# Altium integrated library TI_Logic_Flip-Flop,Latch,Register.IntLib: 2598 symbols (part 17 of 122)
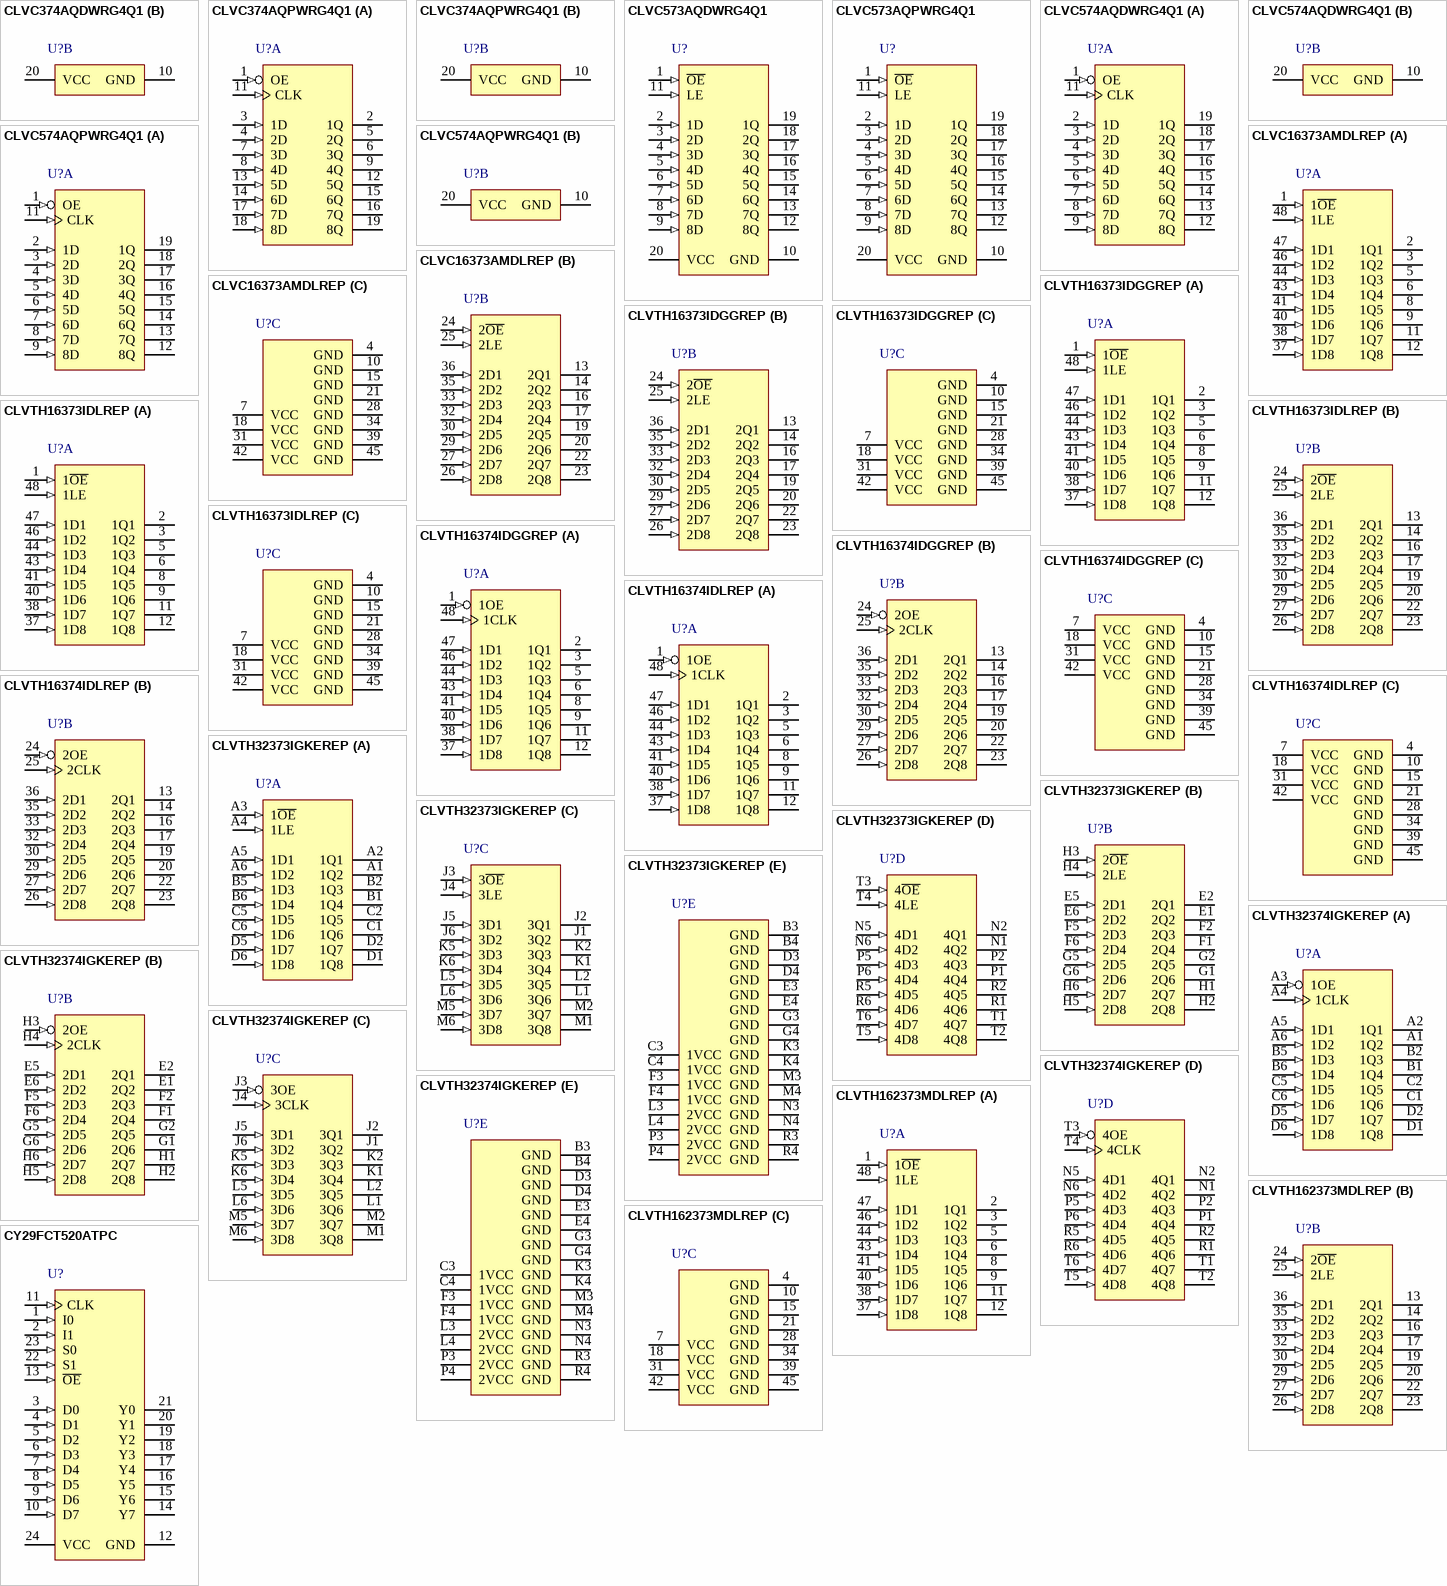
[diagram p155: symbols CLVC374AQDWRG4Q1 to CY29FCT520ATPC]

## CLVTH16373IDGGREP
designator U?
Enhanced Product 3.3-V Abt 16-Bit Transparent D-Type Latches With 3-State Outputs, DGG0048A, LARGE T&R; Generic Part Number: SN74LVTH16373-EP; Manufacturer: Texas Instruments; PartNumber: CLVTH16373IDGGREP; VCC(Min)(V): 2.7; VCC(Max)(V): 3.6; Output Type: TTL; ICC @ Nom Voltage(Max)(mA): 5; Bits(#): 16; F @ Nom Voltage(Max)(Mhz): 160; Rating: HiRel Enhanced Product; Technology Family: LVT; Voltage(Nom)(V): 3.3; Schmitt Trigger: No; Output Drive (IOL/IOH)(Max)(mA): 64/-32; Output Logic: Non-inverted; 3-State Output: Yes; tpd @ Nom Voltage(Max)(ns): 3.8; DatasheetVersion: SCBS778A; PackageReference: DGG0048A; Supplier 1: Digi-Key; Supplier Part Number 1: 296-22132-2-ND; Supplier 2: Digi-Key; Supplier Part Number 2: 296-22132-1-ND; Supplier 3: Digi-Key; Supplier Part Number 3: 296-22132-6-ND; Supplier 4: Mouser; Supplier Part Number 4: 595-CVTH16373IDGGREP; Input Type: TTL; Operating Temperature Range(C): -40 to 85; Code_JEDEC: MO-153; ComponentLink1Description: Manufacturer URL; ComponentLink1URL: http://www.ti.com/; ComponentLink2Description: Datasheet; ComponentLink2URL: http://www.ti.com/lit/ds/symlink/sn74lvth16373-ep.pdf; ComponentLink3Description: Package Specification; ComponentLink3URL: http://www.ti.com/lit/ml/mtss003d/mtss003d.pdf
footprint DGG0048A_N (TSSOP, 48-Leads, Body 12.6x6.2mm, Pitch 0.5mm, IPC Medium Density)
footprint DGG0048A_M (TSSOP, 48-Leads, Body 12.6x6.2mm, Pitch 0.5mm, IPC Low Density)
footprint DGG0048A_L (TSSOP, 48-Leads, Body 12.6x6.2mm, Pitch 0.5mm, IPC High Density)
part A pins: 1 1~{OE} (in) "Output Enable 1", 2 1Q1 (hiz) "1Q1 Output", 3 1Q2 (hiz) "1Q2 Output", 5 1Q3 (hiz) "1Q3 Output", 6 1Q4 (hiz) "1Q4 Output", 8 1Q5 (hiz) "1Q5 Output", 9 1Q6 (hiz) "1Q6 Output", 11 1Q7 (hiz) "1Q7 Output", 12 1Q8 (hiz) "1Q8 Output", 37 1D8 (in) "1D8 Input", 38 1D7 (in) "1D7 Input", 40 1D6 (in) "1D6 Input", 41 1D5 (in) "1D5 Input", 43 1D4 (in) "1D4 Input", 44 1D3 (in) "1D3 Input", 46 1D2 (in) "1D2 Input", 47 1D1 (in) "1D1 Input", 48 1LE (in) "Latch Enable 1"
part B pins: 13 2Q1 (hiz) "2Q1 Output", 14 2Q2 (hiz) "2Q2 Output", 16 2Q3 (hiz) "2Q3 Output", 17 2Q4 (hiz) "2Q4 Output", 19 2Q5 (hiz) "Output", 20 2Q6 (hiz) "2Q6 Output", 22 2Q7 (hiz) "2Q7 Output", 23 2Q8 (hiz) "2Q8 Output", 24 2~{OE} (in) "Output Enable 2", 25 2LE (in) "2LE Input", 26 2D8 (in) "2D8 Input", 27 2D7 (in) "2D7 Input", 29 2D6 (in) "2D6 Input", 30 2D5 (in) "2D5 Input", 32 2D4 (in) "2D4 Input", 33 2D3 (in) "2D3 Input", 35 2D2 (in) "2D2 Input", 36 2D1 (in) "2D1 Input"
part C pins: 4 GND (power) "Ground Pin", 7 VCC (power) "Power Pin", 10 GND (power) "Ground Pin", 15 GND (power) "Ground Pin", 18 VCC (power) "Power Pin", 21 GND (power) "Ground Pin", 28 GND (power) "Ground Pin", 31 VCC (power) "Power Pin", 34 GND (power) "Ground Pin", 39 GND (power) "Ground Pin", 42 VCC (power) "Power Pin", 45 GND (power) "Ground Pin"

## CLVTH16373IDLREP
designator U?
Enhanced Product 3.3-V Abt 16-Bit Transparent D-Type Latches With 3-State Outputs, DL0048A, LARGE T&R; Generic Part Number: SN74LVTH16373-EP; Manufacturer: Texas Instruments; PartNumber: CLVTH16373IDLREP; VCC(Min)(V): 2.7; VCC(Max)(V): 3.6; Output Type: TTL; ICC @ Nom Voltage(Max)(mA): 5; Bits(#): 16; F @ Nom Voltage(Max)(Mhz): 160; Rating: HiRel Enhanced Product; Technology Family: LVT; Voltage(Nom)(V): 3.3; Schmitt Trigger: No; Output Drive (IOL/IOH)(Max)(mA): 64/-32; Output Logic: Non-inverted; 3-State Output: Yes; tpd @ Nom Voltage(Max)(ns): 3.8; DatasheetVersion: SCBS778A; PackageReference: DL0048A; Supplier 1: Digi-Key; Supplier Part Number 1: 296-22133-2-ND; Supplier 2: Digi-Key; Supplier Part Number 2: 296-22133-1-ND; Supplier 3: Digi-Key; Supplier Part Number 3: 296-22133-6-ND; Supplier 4: Mouser; Supplier Part Number 4: 595-CLVTH16373IDLREP; Input Type: TTL; Operating Temperature Range(C): -40 to 85; Code_JEDEC: MO-118; ComponentLink1Description: Manufacturer URL; ComponentLink1URL: http://www.ti.com/; ComponentLink2Description: Datasheet; ComponentLink2URL: http://www.ti.com/lit/ds/symlink/sn74lvth16373-ep.pdf; ComponentLink3Description: Package Specification; ComponentLink3URL: http://www.ti.com/lit/ml/mpds490/mpds490.pdf
footprint DL0048A_N (SOP, 48-Leads, Body 7.6x16mm, Pitch 0.635mm, IPC Medium Density)
footprint DL0048A_M (SOP, 48-Leads, Body 7.6x16mm, Pitch 0.635mm, IPC Low Density)
footprint DL0048A_L (SOP, 48-Leads, Body 7.6x16mm, Pitch 0.635mm, IPC High Density)
part A pins: 1 1~{OE} (in) "Output Enable 1", 2 1Q1 (hiz) "1Q1 Output", 3 1Q2 (hiz) "1Q2 Output", 5 1Q3 (hiz) "1Q3 Output", 6 1Q4 (hiz) "1Q4 Output", 8 1Q5 (hiz) "1Q5 Output", 9 1Q6 (hiz) "1Q6 Output", 11 1Q7 (hiz) "1Q7 Output", 12 1Q8 (hiz) "1Q8 Output", 37 1D8 (in) "1D8 Input", 38 1D7 (in) "1D7 Input", 40 1D6 (in) "1D6 Input", 41 1D5 (in) "1D5 Input", 43 1D4 (in) "1D4 Input", 44 1D3 (in) "1D3 Input", 46 1D2 (in) "1D2 Input", 47 1D1 (in) "1D1 Input", 48 1LE (in) "Latch Enable 1"
part B pins: 13 2Q1 (hiz) "2Q1 Output", 14 2Q2 (hiz) "2Q2 Output", 16 2Q3 (hiz) "2Q3 Output", 17 2Q4 (hiz) "2Q4 Output", 19 2Q5 (hiz) "Output", 20 2Q6 (hiz) "2Q6 Output", 22 2Q7 (hiz) "2Q7 Output", 23 2Q8 (hiz) "2Q8 Output", 24 2~{OE} (in) "Output Enable 2", 25 2LE (in) "2LE Input", 26 2D8 (in) "2D8 Input", 27 2D7 (in) "2D7 Input", 29 2D6 (in) "2D6 Input", 30 2D5 (in) "2D5 Input", 32 2D4 (in) "2D4 Input", 33 2D3 (in) "2D3 Input", 35 2D2 (in) "2D2 Input", 36 2D1 (in) "2D1 Input"
part C pins: 4 GND (power) "Ground Pin", 7 VCC (power) "Power Pin", 10 GND (power) "Ground Pin", 15 GND (power) "Ground Pin", 18 VCC (power) "Power Pin", 21 GND (power) "Ground Pin", 28 GND (power) "Ground Pin", 31 VCC (power) "Power Pin", 34 GND (power) "Ground Pin", 39 GND (power) "Ground Pin", 42 VCC (power) "Power Pin", 45 GND (power) "Ground Pin"

## CLVTH16374IDGGREP
designator U?
Enhanced Product 3.3-V Abt 16-Bit Edge-Triggered D-Type Flip-Flops With 3-State Outputs, DGG0048A, LARGE T&R; Generic Part Number: SN74LVTH16374-EP; Manufacturer: Texas Instruments; PartNumber: CLVTH16374IDGGREP; VCC(Min)(V): 2.7; VCC(Max)(V): 3.6; Output Type: TTL; ICC @ Nom Voltage(Max)(mA): 5; Bits(#): 16; F @ Nom Voltage(Max)(Mhz): 160; Rating: HiRel Enhanced Product; Technology Family: LVT; Voltage(Nom)(V): 3.3; Schmitt Trigger: No; Output Drive (IOL/IOH)(Max)(mA): 64/-32; Output Logic: Non-inverted; 3-State Output: Yes; tpd @ Nom Voltage(Max)(ns): 4.5; DatasheetVersion: SCBS779A; PackageReference: DGG0048A; Supplier 1: Digi-Key; Supplier Part Number 1: 296-22136-2-ND; Supplier 2: Digi-Key; Supplier Part Number 2: 296-22136-1-ND; Supplier 3: Digi-Key; Supplier Part Number 3: 296-22136-6-ND; Supplier 4: Mouser; Supplier Part Number 4: 595-CVTH16374IDGGREP; Input Type: TTL; Operating Temperature Range(C): -40 to 85; Code_JEDEC: MO-153; ComponentLink1Description: Manufacturer URL; ComponentLink1URL: http://www.ti.com/; ComponentLink2Description: Datasheet; ComponentLink2URL: http://www.ti.com/lit/ds/symlink/sn74lvth16374-ep.pdf; ComponentLink3Description: Package Specification; ComponentLink3URL: http://www.ti.com/lit/ml/mtss003d/mtss003d.pdf
footprint DGG0048A_N (TSSOP, 48-Leads, Body 12.6x6.2mm, Pitch 0.5mm, IPC Medium Density)
footprint DGG0048A_M (TSSOP, 48-Leads, Body 12.6x6.2mm, Pitch 0.5mm, IPC Low Density)
footprint DGG0048A_L (TSSOP, 48-Leads, Body 12.6x6.2mm, Pitch 0.5mm, IPC High Density)
part A pins: 1 1OE (in), 2 1Q1 (hiz), 3 1Q2 (hiz), 5 1Q3 (hiz), 6 1Q4 (hiz), 8 1Q5 (hiz), 9 1Q6 (hiz), 11 1Q7 (hiz), 12 1Q8 (hiz), 37 1D8 (in), 38 1D7 (in), 40 1D6 (in), 41 1D5 (in), 43 1D4 (in), 44 1D3 (in), 46 1D2 (in), 47 1D1 (in), 48 1CLK (in)
part B pins: 13 2Q1 (hiz), 14 2Q2 (hiz), 16 2Q3 (hiz), 17 2Q4 (hiz), 19 2Q5 (hiz), 20 2Q6 (hiz), 22 2Q7 (hiz), 23 2Q8 (hiz), 24 2OE (in), 25 2CLK (in), 26 2D8 (in), 27 2D7 (in), 29 2D6 (in), 30 2D5 (in), 32 2D4 (in), 33 2D3 (in), 35 2D2 (in), 36 2D1 (in)
part C pins: 4 GND (power), 7 VCC (power), 10 GND (power), 15 GND (power), 18 VCC (power), 21 GND (power), 28 GND (power), 31 VCC (power), 34 GND (power), 39 GND (power), 42 VCC (power), 45 GND (power)

## CLVTH16374IDLREP
designator U?
Enhanced Product 3.3-V Abt 16-Bit Edge-Triggered D-Type Flip-Flops With 3-State Outputs, DL0048A, LARGE T&R; Generic Part Number: SN74LVTH16374-EP; Manufacturer: Texas Instruments; PartNumber: CLVTH16374IDLREP; VCC(Min)(V): 2.7; VCC(Max)(V): 3.6; Output Type: TTL; ICC @ Nom Voltage(Max)(mA): 5; Bits(#): 16; F @ Nom Voltage(Max)(Mhz): 160; Rating: HiRel Enhanced Product; Technology Family: LVT; Voltage(Nom)(V): 3.3; Schmitt Trigger: No; Output Drive (IOL/IOH)(Max)(mA): 64/-32; Output Logic: Non-inverted; 3-State Output: Yes; tpd @ Nom Voltage(Max)(ns): 4.5; DatasheetVersion: SCBS779A; PackageReference: DL0048A; Supplier 1: Digi-Key; Supplier Part Number 1: 296-19494-2-ND; Supplier 2: Digi-Key; Supplier Part Number 2: 296-19494-1-ND; Supplier 3: Digi-Key; Supplier Part Number 3: 296-19494-6-ND; Supplier 4: Mouser; Supplier Part Number 4: 595-CLVTH16374IDLREP; Input Type: TTL; Operating Temperature Range(C): -40 to 85; Code_JEDEC: MO-118; ComponentLink1Description: Manufacturer URL; ComponentLink1URL: http://www.ti.com/; ComponentLink2Description: Datasheet; ComponentLink2URL: http://www.ti.com/lit/ds/symlink/sn74lvth16374-ep.pdf; ComponentLink3Description: Package Specification; ComponentLink3URL: http://www.ti.com/lit/ml/mpds490/mpds490.pdf
footprint DL0048A_N (SOP, 48-Leads, Body 7.6x16mm, Pitch 0.635mm, IPC Medium Density)
footprint DL0048A_M (SOP, 48-Leads, Body 7.6x16mm, Pitch 0.635mm, IPC Low Density)
footprint DL0048A_L (SOP, 48-Leads, Body 7.6x16mm, Pitch 0.635mm, IPC High Density)
part A pins: 1 1OE (in), 2 1Q1 (hiz), 3 1Q2 (hiz), 5 1Q3 (hiz), 6 1Q4 (hiz), 8 1Q5 (hiz), 9 1Q6 (hiz), 11 1Q7 (hiz), 12 1Q8 (hiz), 37 1D8 (in), 38 1D7 (in), 40 1D6 (in), 41 1D5 (in), 43 1D4 (in), 44 1D3 (in), 46 1D2 (in), 47 1D1 (in), 48 1CLK (in)
part B pins: 13 2Q1 (hiz), 14 2Q2 (hiz), 16 2Q3 (hiz), 17 2Q4 (hiz), 19 2Q5 (hiz), 20 2Q6 (hiz), 22 2Q7 (hiz), 23 2Q8 (hiz), 24 2OE (in), 25 2CLK (in), 26 2D8 (in), 27 2D7 (in), 29 2D6 (in), 30 2D5 (in), 32 2D4 (in), 33 2D3 (in), 35 2D2 (in), 36 2D1 (in)
part C pins: 4 GND (power), 7 VCC (power), 10 GND (power), 15 GND (power), 18 VCC (power), 21 GND (power), 28 GND (power), 31 VCC (power), 34 GND (power), 39 GND (power), 42 VCC (power), 45 GND (power)

## CLVTH32373IGKEREP
designator U?
Enhanced Product 3.3-V Abt 32-Bit Transparent D-Type Latch With 3-State Outputs, GKE0096A, LARGE T&R; Generic Part Number: SN74LVTH32373-EP; Manufacturer: Texas Instruments; PartNumber: CLVTH32373IGKEREP; VCC(Min)(V): 2.7; VCC(Max)(V): 3.6; Output Type: TTL; ICC @ Nom Voltage(Max)(mA): 10; Bits(#): 32; F @ Nom Voltage(Max)(Mhz): 160; Rating: HiRel Enhanced Product; Technology Family: LVT; Voltage(Nom)(V): 3.3; Schmitt Trigger: No; Output Drive (IOL/IOH)(Max)(mA): 64/-32; Output Logic: Non-inverted; 3-State Output: Yes; tpd @ Nom Voltage(Max)(ns): 3.8; DatasheetVersion: SCBS794; PackageReference: GKE0096A; Supplier 1: Digi-Key; Supplier Part Number 1: 296-22145-2-ND; Supplier 2: Digi-Key; Supplier Part Number 2: 296-22145-1-ND; Supplier 3: Mouser; Supplier Part Number 3: 595-CVTH32373IGKEREP; Input Type: TTL; Operating Temperature Range(C): -40 to 85; Code_JEDEC: MO-205; ComponentLink1Description: Manufacturer URL; ComponentLink1URL: http://www.ti.com/; ComponentLink2Description: Datasheet; ComponentLink2URL: http://www.ti.com/lit/ds/symlink/sn74lvth32373-ep.pdf; ComponentLink3Description: Package Specification; ComponentLink3URL: http://www.ti.com/lit/ml/mpbg095d/mpbg095d.pdf
footprint GKE0096A (BGA, 96-Balls, Body 13.5x5.5mm, Pitch 0.8mm)
part A pins: A1 1Q2 (hiz), A2 1Q1 (hiz), A3 1~{OE} (in), A4 1LE (in), A5 1D1 (in), A6 1D2 (in), B1 1Q4 (hiz), B2 1Q3 (hiz), B5 1D3 (in), B6 1D4 (in), C1 1Q6 (hiz), C2 1Q5 (hiz), C5 1D5 (in), C6 1D6 (in), D1 1Q8 (hiz), D2 1Q7 (hiz), D5 1D7 (in), D6 1D8 (in)
part B pins: E1 2Q2 (hiz), E2 2Q1 (hiz), E5 2D1 (in), E6 2D2 (in), F1 2Q4 (hiz), F2 2Q3 (hiz), F5 2D3 (in), F6 2D4 (in), G1 2Q6 (hiz), G2 2Q5 (hiz), G5 2D5 (in), G6 2D6 (in), H1 2Q7 (hiz), H2 2Q8 (hiz), H3 2~{OE} (in), H4 2LE (in), H5 2D8 (in), H6 2D7 (in)
part C pins: J1 3Q2 (hiz), J2 3Q1 (hiz), J3 3~{OE} (in), J4 3LE (in), J5 3D1 (in), J6 3D2 (in), K1 3Q4 (hiz), K2 3Q3 (hiz), K5 3D3 (in), K6 3D4 (in), L1 3Q6 (hiz), L2 3Q5 (hiz), L5 3D5 (in), L6 3D6 (in), M1 3Q8 (hiz), M2 3Q7 (hiz), M5 3D7 (in), M6 3D8 (in)
part D pins: N1 4Q2 (hiz), N2 4Q1 (hiz), N5 4D1 (in), N6 4D2 (in), P1 4Q4 (hiz), P2 4Q3 (hiz), P5 4D3 (in), P6 4D4 (in), R1 4Q6 (hiz), R2 4Q5 (hiz), R5 4D5 (in), R6 4D6 (in), T1 4Q7 (hiz), T2 4Q8 (hiz), T3 4~{OE} (in), T4 4LE (in), T5 4D8 (in), T6 4D7 (in)
part E pins: B3 GND (power), B4 GND (power), C3 1VCC (power), C4 1VCC (power), D3 GND (power), D4 GND (power), E3 GND (power), E4 GND (power), F3 1VCC (power), F4 1VCC (power), G3 GND (power), G4 GND (power), K3 GND (power), K4 GND (power), L3 2VCC (power), L4 2VCC (power), M3 GND (power), M4 GND (power), N3 GND (power), N4 GND (power), P3 2VCC (power), P4 2VCC (power), R3 GND (power), R4 GND (power)

## CLVTH32374IGKEREP
designator U?
Enhanced Product 3.3-V Abt 32-Bit Edge-Triggered D-Type Flip-Flop With 3-State Outputs, GKE0096A, LARGE T&R; Generic Part Number: SN74LVTH32374-EP; Manufacturer: Texas Instruments; PartNumber: CLVTH32374IGKEREP; VCC(Min)(V): 2.7; VCC(Max)(V): 3.6; Output Type: TTL; ICC @ Nom Voltage(Max)(mA): 10; Bits(#): 32; F @ Nom Voltage(Max)(Mhz): 160; Rating: HiRel Enhanced Product; Technology Family: LVT; Voltage(Nom)(V): 3.3; Schmitt Trigger: No; Output Drive (IOL/IOH)(Max)(mA): 64/-32; Output Logic: Non-inverted; 3-State Output: Yes; tpd @ Nom Voltage(Max)(ns): 4.5; DatasheetVersion: SCBS795; PackageReference: GKE0096A; Supplier 1: Digi-Key; Supplier Part Number 1: 296-22146-2-ND; Supplier 2: Digi-Key; Supplier Part Number 2: 296-22146-1-ND; Supplier 3: Mouser; Supplier Part Number 3: 595-CVTH32374IGKEREP; Operating Temperature Range(C): -40 to 85; Code_JEDEC: MO-205; ComponentLink1Description: Manufacturer URL; ComponentLink1URL: http://www.ti.com/; ComponentLink2Description: Datasheet; ComponentLink2URL: http://www.ti.com/lit/ds/symlink/sn74lvth32374-ep.pdf; ComponentLink3Description: Package Specification; ComponentLink3URL: http://www.ti.com/lit/ml/mpbg095d/mpbg095d.pdf
footprint GKE0096A (BGA, 96-Balls, Body 13.5x5.5mm, Pitch 0.8mm)
part A pins: A1 1Q2 (hiz), A2 1Q1 (hiz), A3 1OE (in), A4 1CLK (in), A5 1D1 (in), A6 1D2 (in), B1 1Q4 (hiz), B2 1Q3 (hiz), B5 1D3 (in), B6 1D4 (in), C1 1Q6 (hiz), C2 1Q5 (hiz), C5 1D5 (in), C6 1D6 (in), D1 1Q8 (hiz), D2 1Q7 (hiz), D5 1D7 (in), D6 1D8 (in)
part B pins: E1 2Q2 (hiz), E2 2Q1 (hiz), E5 2D1 (in), E6 2D2 (in), F1 2Q4 (hiz), F2 2Q3 (hiz), F5 2D3 (in), F6 2D4 (in), G1 2Q6 (hiz), G2 2Q5 (hiz), G5 2D5 (in), G6 2D6 (in), H1 2Q7 (hiz), H2 2Q8 (hiz), H3 2OE (in), H4 2CLK (in), H5 2D8 (in), H6 2D7 (in)
part C pins: J1 3Q2 (hiz), J2 3Q1 (hiz), J3 3OE (in), J4 3CLK (in), J5 3D1 (in), J6 3D2 (in), K1 3Q4 (hiz), K2 3Q3 (hiz), K5 3D3 (in), K6 3D4 (in), L1 3Q6 (hiz), L2 3Q5 (hiz), L5 3D5 (in), L6 3D6 (in), M1 3Q8 (hiz), M2 3Q7 (hiz), M5 3D7 (in), M6 3D8 (in)
part D pins: N1 4Q2 (hiz), N2 4Q1 (hiz), N5 4D1 (in), N6 4D2 (in), P1 4Q4 (hiz), P2 4Q3 (hiz), P5 4D3 (in), P6 4D4 (in), R1 4Q6 (hiz), R2 4Q5 (hiz), R5 4D5 (in), R6 4D6 (in), T1 4Q7 (hiz), T2 4Q8 (hiz), T3 4OE (in), T4 4CLK (in), T5 4D8 (in), T6 4D7 (in)
part E pins: B3 GND (power), B4 GND (power), C3 1VCC (power), C4 1VCC (power), D3 GND (power), D4 GND (power), E3 GND (power), E4 GND (power), F3 1VCC (power), F4 1VCC (power), G3 GND (power), G4 GND (power), K3 GND (power), K4 GND (power), L3 2VCC (power), L4 2VCC (power), M3 GND (power), M4 GND (power), N3 GND (power), N4 GND (power), P3 2VCC (power), P4 2VCC (power), R3 GND (power), R4 GND (power)

## CLVTH162373MDLREP
designator U?
Enhanced Product 3.3-V Abt 16-Bit Transparent D-Type Latches With 3-State Outputs, DL0048A, LARGE T&R; Generic Part Number: SN74LVTH162373-EP; Manufacturer: Texas Instruments; PartNumber: CLVTH162373MDLREP; VCC(Min)(V): 2.7; VCC(Max)(V): 3.6; Output Type: TTL; ICC @ Nom Voltage(Max)(mA): 5; Bits(#): 16; F @ Nom Voltage(Max)(Mhz): 160; Rating: HiRel Enhanced Product; Technology Family: LVT; Voltage(Nom)(V): 3.3; Schmitt Trigger: No; Output Drive (IOL/IOH)(Max)(mA): 12/-12; Output Logic: Non-inverted; 3-State Output: Yes; tpd @ Nom Voltage(Max)(ns): 4.6; DatasheetVersion: SCBS811A; PackageReference: DL0048A; Supplier 1: Digi-Key; Supplier Part Number 1: 296-22120-2-ND; Supplier 2: Digi-Key; Supplier Part Number 2: 296-22120-1-ND; Supplier 3: Digi-Key; Supplier Part Number 3: 296-22120-6-ND; Supplier 4: Mouser; Supplier Part Number 4: 595-CVTH162373MDLREP; Input Type: TTL; Operating Temperature Range(C): -55 to 125; Code_JEDEC: MO-118; ComponentLink1Description: Manufacturer URL; ComponentLink1URL: http://www.ti.com/; ComponentLink2Description: Datasheet; ComponentLink2URL: http://www.ti.com/lit/ds/symlink/sn74lvth162373-ep.pdf; ComponentLink3Description: Package Specification; ComponentLink3URL: http://www.ti.com/lit/ml/mpds490/mpds490.pdf
footprint DL0048A_N (SOP, 48-Leads, Body 7.6x16mm, Pitch 0.635mm, IPC Medium Density)
footprint DL0048A_M (SOP, 48-Leads, Body 7.6x16mm, Pitch 0.635mm, IPC Low Density)
footprint DL0048A_L (SOP, 48-Leads, Body 7.6x16mm, Pitch 0.635mm, IPC High Density)
part A pins: 1 1~{OE} (in) "Output Enable 1", 2 1Q1 (hiz) "1Q1 Output", 3 1Q2 (hiz) "1Q2 Output", 5 1Q3 (hiz) "1Q3 Output", 6 1Q4 (hiz) "1Q4 Output", 8 1Q5 (hiz) "1Q5 Output", 9 1Q6 (hiz) "1Q6 Output", 11 1Q7 (hiz) "1Q7 Output", 12 1Q8 (hiz) "1Q8 Output", 37 1D8 (in) "1D8 Input", 38 1D7 (in) "1D7 Input", 40 1D6 (in) "1D6 Input", 41 1D5 (in) "1D5 Input", 43 1D4 (in) "1D4 Input", 44 1D3 (in) "1D3 Input", 46 1D2 (in) "1D2 Input", 47 1D1 (in) "1D1 Input", 48 1LE (in) "Latch Enable 1"
part B pins: 13 2Q1 (hiz) "2Q1 Output", 14 2Q2 (hiz) "2Q2 Output", 16 2Q3 (hiz) "2Q3 Output", 17 2Q4 (hiz) "2Q4 Output", 19 2Q5 (hiz) "Output", 20 2Q6 (hiz) "2Q6 Output", 22 2Q7 (hiz) "2Q7 Output", 23 2Q8 (hiz) "2Q8 Output", 24 2~{OE} (in) "Output Enable 2", 25 2LE (in) "2LE Input", 26 2D8 (in) "2D8 Input", 27 2D7 (in) "2D7 Input", 29 2D6 (in) "2D6 Input", 30 2D5 (in) "2D5 Input", 32 2D4 (in) "2D4 Input", 33 2D3 (in) "2D3 Input", 35 2D2 (in) "2D2 Input", 36 2D1 (in) "2D1 Input"
part C pins: 4 GND (power) "Ground Pin", 7 VCC (power) "Power Pin", 10 GND (power) "Ground Pin", 15 GND (power) "Ground Pin", 18 VCC (power) "Power Pin", 21 GND (power) "Ground Pin", 28 GND (power) "Ground Pin", 31 VCC (power) "Power Pin", 34 GND (power) "Ground Pin", 39 GND (power) "Ground Pin", 42 VCC (power) "Power Pin", 45 GND (power) "Ground Pin"

## CY29FCT520ATPC
designator U?
8-Bit Multi-Level Pipeline Register, NT0024A, TUBE; Generic Part Number: CY29FCT520T; Manufacturer: Texas Instruments; PartNumber: CY29FCT520ATPC; Technology Family: FCT; Bits: 8; DatasheetVersion: SCCS011C; PackageReference: NT0024A; ComponentLink1Description: Manufacturer URL; ComponentLink1URL: http://www.ti.com/; ComponentLink2Description: Datasheet; ComponentLink2URL: http://www.ti.com/lit/ds/symlink/cy29fct520t.pdf; ComponentLink3Description: Package Specification; ComponentLink3URL: http://www.ti.com/lit/ml/mpdi004a/mpdi004a.pdf
footprint NT0024A (DIP, 24-Leads, Body 32.05x7.1mm, Pitch 2.54mm)
pins: 1 I0 (in), 2 I1 (in), 3 D0 (in), 4 D1 (in), 5 D2 (in), 6 D3 (in), 7 D4 (in), 8 D5 (in), 9 D6 (in), 10 D7 (in), 11 CLK (in), 12 GND (power), 13 ~{OE} (in), 14 Y7 (hiz), 15 Y6 (hiz), 16 Y5 (hiz), 17 Y4 (hiz), 18 Y3 (hiz), 19 Y2 (hiz), 20 Y1 (hiz), 21 Y0 (hiz), 22 S1 (in), 23 S0 (in), 24 VCC (power)

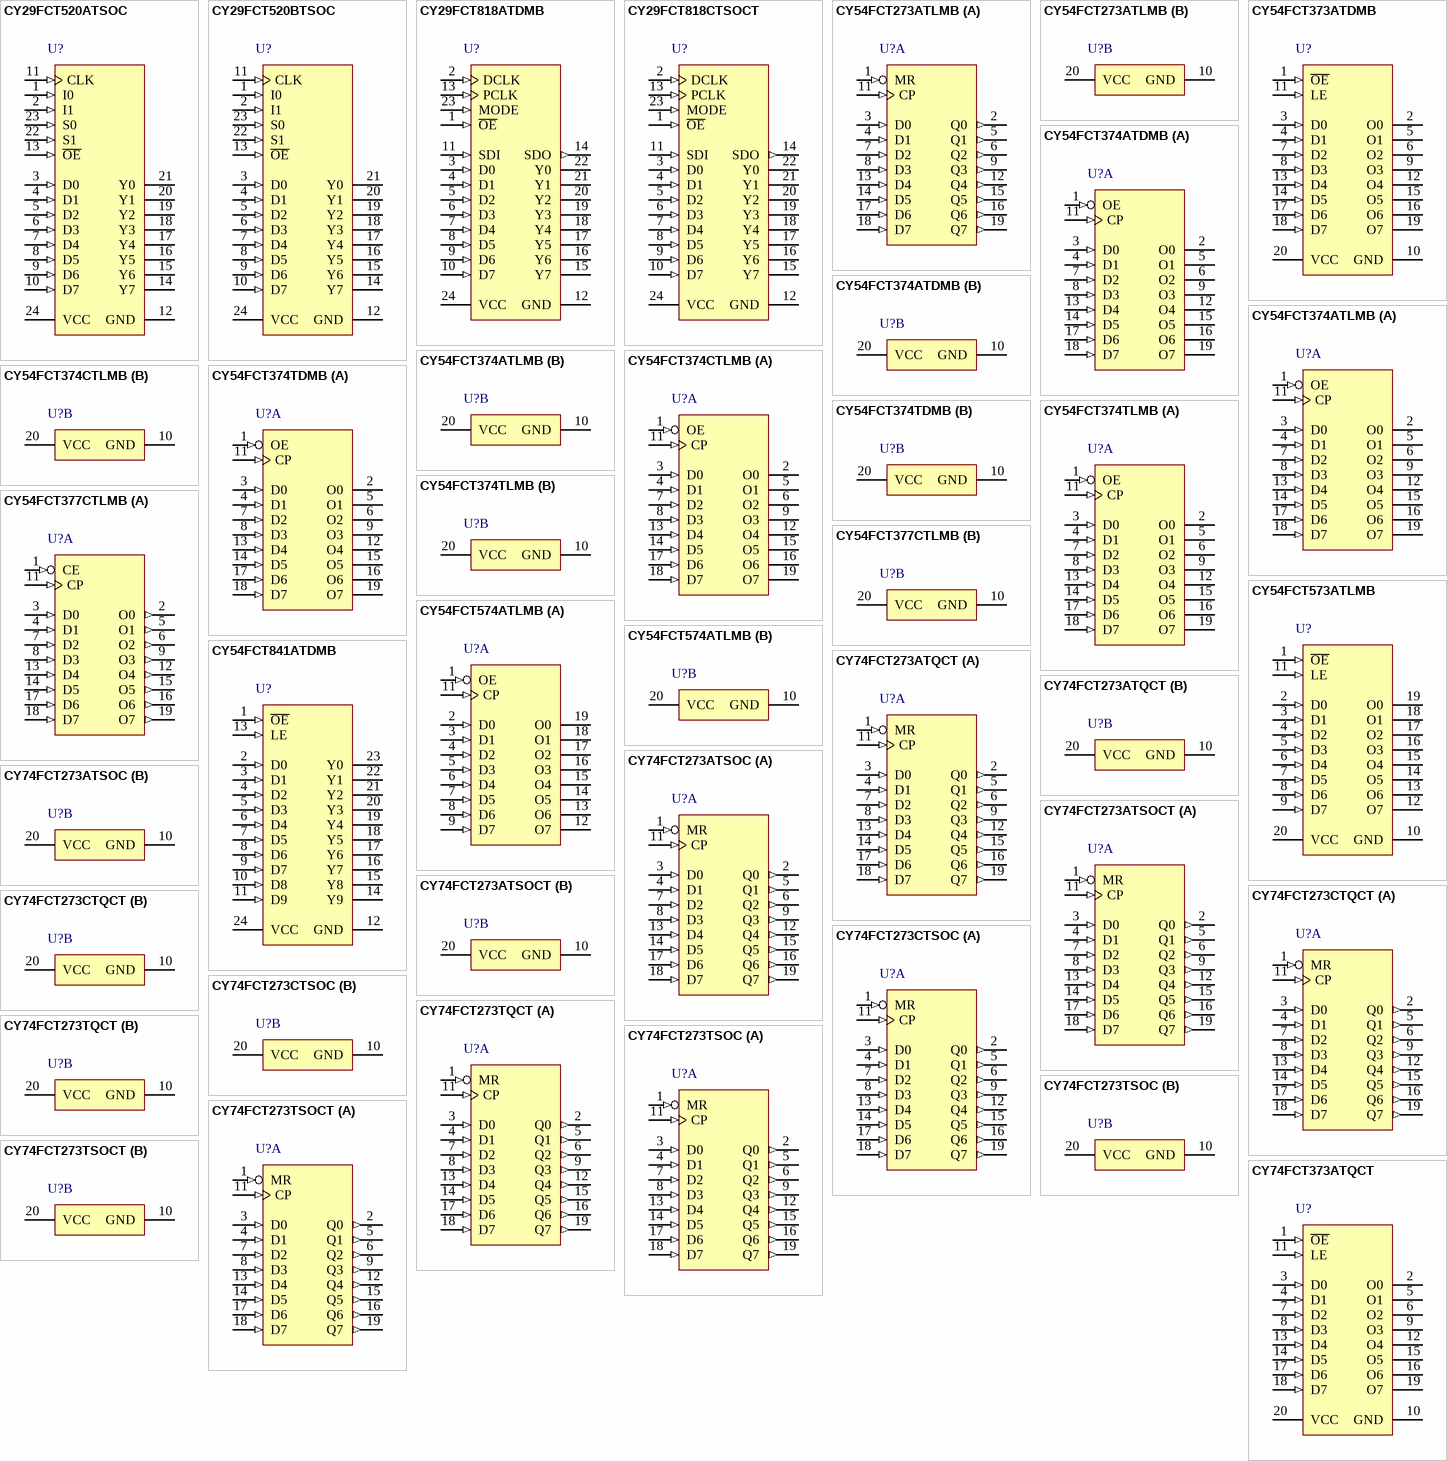
[diagram p24: symbols CY29FCT520ATSOC to CY74FCT373ATQCT]

## CY29FCT520ATSOC
designator U?
8-Bit Multi-Level Pipeline Register, DW0024A, TUBE; Generic Part Number: CY29FCT520T; Manufacturer: Texas Instruments; PartNumber: CY29FCT520ATSOC; Technology Family: FCT; Rating: Military; DatasheetVersion: SCCS011C; PackageReference: DW0024A; Operating Temperature Range(C): -40 to 85, -55 to 125; Code_JEDEC: MS-013; ComponentLink1Description: Manufacturer URL; ComponentLink1URL: http://www.ti.com/; ComponentLink2Description: Datasheet; ComponentLink2URL: http://www.ti.com/lit/ds/symlink/cy29fct520t.pdf; ComponentLink3Description: Package Specification; ComponentLink3URL: http://www.ti.com/lit/ml/mpds174a/mpds174a.pdf
footprint DW0024A_N (SOIC, 24-Leads, Body 15.6x7.6mm, Pitch 1.27mm, IPC Medium Density)
footprint DW0024A_M (SOIC, 24-Leads, Body 15.6x7.6mm, Pitch 1.27mm, IPC Low Density)
footprint DW0024A_L (SOIC, 24-Leads, Body 15.6x7.6mm, Pitch 1.27mm, IPC High Density)
pins: 1 I0 (in), 2 I1 (in), 3 D0 (in), 4 D1 (in), 5 D2 (in), 6 D3 (in), 7 D4 (in), 8 D5 (in), 9 D6 (in), 10 D7 (in), 11 CLK (in), 12 GND (power), 13 ~{OE} (in), 14 Y7 (hiz), 15 Y6 (hiz), 16 Y5 (hiz), 17 Y4 (hiz), 18 Y3 (hiz), 19 Y2 (hiz), 20 Y1 (hiz), 21 Y0 (hiz), 22 S1 (in), 23 S0 (in), 24 VCC (power)

## CY29FCT520BTSOC
designator U?
8-Bit Multi-Level Pipeline Register, DW0024A, TUBE; Generic Part Number: CY29FCT520T; Manufacturer: Texas Instruments; PartNumber: CY29FCT520BTSOC; Technology Family: FCT; Rating: Military; DatasheetVersion: SCCS011C; PackageReference: DW0024A; Operating Temperature Range(C): -40 to 85, -55 to 125; Code_JEDEC: MS-013; ComponentLink1Description: Manufacturer URL; ComponentLink1URL: http://www.ti.com/; ComponentLink2Description: Datasheet; ComponentLink2URL: http://www.ti.com/lit/ds/symlink/cy29fct520t.pdf; ComponentLink3Description: Package Specification; ComponentLink3URL: http://www.ti.com/lit/ml/mpds174a/mpds174a.pdf
footprint DW0024A_N (SOIC, 24-Leads, Body 15.6x7.6mm, Pitch 1.27mm, IPC Medium Density)
footprint DW0024A_M (SOIC, 24-Leads, Body 15.6x7.6mm, Pitch 1.27mm, IPC Low Density)
footprint DW0024A_L (SOIC, 24-Leads, Body 15.6x7.6mm, Pitch 1.27mm, IPC High Density)
pins: 1 I0 (in), 2 I1 (in), 3 D0 (in), 4 D1 (in), 5 D2 (in), 6 D3 (in), 7 D4 (in), 8 D5 (in), 9 D6 (in), 10 D7 (in), 11 CLK (in), 12 GND (power), 13 ~{OE} (in), 14 Y7 (hiz), 15 Y6 (hiz), 16 Y5 (hiz), 17 Y4 (hiz), 18 Y3 (hiz), 19 Y2 (hiz), 20 Y1 (hiz), 21 Y0 (hiz), 22 S1 (in), 23 S0 (in), 24 VCC (power)

## CY29FCT818ATDMB
designator U?
Diagnostic Scan Register, JT0024A, TUBE; Generic Part Number: CY29FCT818T; Manufacturer: Texas Instruments; PartNumber: CY29FCT818ATDMB; Technology Family: FCT; Bits: 8; DatasheetVersion: SCCS012B; PackageReference: JT0024A; Code_JEDEC: MO-058 AA; ComponentLink1Description: Manufacturer URL; ComponentLink1URL: http://www.ti.com/; ComponentLink2Description: Datasheet; ComponentLink2URL: http://www.ti.com/lit/ds/symlink/cy29fct818t.pdf; ComponentLink3Description: Package Specification; ComponentLink3URL: http://www.ti.com/lit/ml/mcer004a/mcer004a.pdf
footprint JT0024A (DIP, 24-Leads, Body 7.2x32.5mm, Pitch 2.54mm)
pins: 1 ~{OE} (in), 2 DCLK (in), 3 D0 (in), 4 D1 (in), 5 D2 (in), 6 D3 (in), 7 D4 (in), 8 D5 (in), 9 D6 (in), 10 D7 (in), 11 SDI (in), 12 GND (power), 13 PCLK (in), 14 SDO (out), 15 Y7 (hiz), 16 Y6 (hiz), 17 Y5 (hiz), 18 Y4 (hiz), 19 Y3 (hiz), 20 Y2 (hiz), 21 Y1 (hiz), 22 Y0 (hiz), 23 MODE (in), 24 VCC (power)

## CY29FCT818CTSOCT
designator U?
Diagnostic Scan Register, DW0024A, LARGE T&R; Generic Part Number: CY29FCT818T; Manufacturer: Texas Instruments; PartNumber: CY29FCT818CTSOCT; Technology Family: FCT; Rating: Military; DatasheetVersion: SCCS012B; PackageReference: DW0024A; Operating Temperature Range(C): -55 to 125; Code_JEDEC: MS-013; ComponentLink1Description: Manufacturer URL; ComponentLink1URL: http://www.ti.com/; ComponentLink2Description: Datasheet; ComponentLink2URL: http://www.ti.com/lit/ds/symlink/cy29fct818t.pdf; ComponentLink3Description: Package Specification; ComponentLink3URL: http://www.ti.com/lit/ml/mpds174a/mpds174a.pdf
footprint DW0024A_N (SOIC, 24-Leads, Body 15.6x7.6mm, Pitch 1.27mm, IPC Medium Density)
footprint DW0024A_M (SOIC, 24-Leads, Body 15.6x7.6mm, Pitch 1.27mm, IPC Low Density)
footprint DW0024A_L (SOIC, 24-Leads, Body 15.6x7.6mm, Pitch 1.27mm, IPC High Density)
pins: 1 ~{OE} (in), 2 DCLK (in), 3 D0 (in), 4 D1 (in), 5 D2 (in), 6 D3 (in), 7 D4 (in), 8 D5 (in), 9 D6 (in), 10 D7 (in), 11 SDI (in), 12 GND (power), 13 PCLK (in), 14 SDO (out), 15 Y7 (hiz), 16 Y6 (hiz), 17 Y5 (hiz), 18 Y4 (hiz), 19 Y3 (hiz), 20 Y2 (hiz), 21 Y1 (hiz), 22 Y0 (hiz), 23 MODE (in), 24 VCC (power)

## CY54FCT273ATLMB
designator U?
Octal D-Type Flip-Flops with Clear, FK0020A, TUBE; Generic Part Number: CY54FCT273T; Manufacturer: Texas Instruments; PartNumber: CY54FCT273ATLMB; Rating: Military; Technology Family: FCT; Schmitt Trigger: No; DatasheetVersion: SCCS020A; PackageReference: FK0020A; Operating Temperature Range(C): -55 to 125; Code_JEDEC: MS-004; ComponentLink1Description: Manufacturer URL; ComponentLink1URL: http://www.ti.com/; ComponentLink2Description: Datasheet; ComponentLink2URL: http://www.ti.com/lit/ds/symlink/cy54fct273t.pdf; ComponentLink3Description: Package Specification; ComponentLink3URL: http://www.ti.com/lit/ml/mlcc006d/mlcc006d.pdf
footprint FK0020A_N (LCC, 20-Leads, Body 8.9x8.9mm, Pitch 1.27mm, IPC Medium Density)
footprint FK0020A_M (LCC, 20-Leads, Body 8.9x8.9mm, Pitch 1.27mm, IPC Low Density)
footprint FK0020A_L (LCC, 20-Leads, Body 8.9x8.9mm, Pitch 1.27mm, IPC High Density)
part A pins: 1 MR (in), 2 Q0 (out), 3 D0 (in), 4 D1 (in), 5 Q1 (out), 6 Q2 (out), 7 D2 (in), 8 D3 (in), 9 Q3 (out), 11 CP (in), 12 Q4 (out), 13 D4 (in), 14 D5 (in), 15 Q5 (out), 16 Q6 (out), 17 D6 (in), 18 D7 (in), 19 Q7 (out)
part B pins: 10 GND (power), 20 VCC (power)

## CY54FCT373ATDMB
designator U?
Octal Transparent D-Type Latches with 3-State Outputs, J0020A, TUBE; Generic Part Number: CY54FCT373T; Manufacturer: Texas Instruments; PartNumber: CY54FCT373ATDMB; Rating: Military; Technology Family: FCT; Schmitt Trigger: No; DatasheetVersion: SCCS021B; PackageReference: J0020A; Operating Temperature Range(C): -55 to 125; ComponentLink1Description: Manufacturer URL; ComponentLink1URL: http://www.ti.com/; ComponentLink2Description: Datasheet; ComponentLink2URL: http://www.ti.com/lit/ds/symlink/cy54fct373t.pdf; ComponentLink3Description: Package Specification; ComponentLink3URL: http://www.ti.com/lit/ml/mcer002d/mcer002d.pdf
footprint J0020A (DIP, 20-Leads, Body 26.9x7.2mm, Pitch 2.54mm)
pins: 1 ~{OE} (in), 2 O0 (hiz), 3 D0 (in), 4 D1 (in), 5 O1 (hiz), 6 O2 (hiz), 7 D2 (in), 8 D3 (in), 9 O3 (hiz), 10 GND (power), 11 LE (in), 12 O4 (hiz), 13 D4 (in), 14 D5 (in), 15 O5 (hiz), 16 O6 (hiz), 17 D6 (in), 18 D7 (in), 19 O7 (hiz), 20 VCC (power)

## CY54FCT374ATDMB
designator U?
Octal D-Type Registers with 3-State Outputs, J0020A, TUBE; Generic Part Number: CY54FCT374T; Manufacturer: Texas Instruments; PartNumber: CY54FCT374ATDMB; Rating: Military; Technology Family: FCT; Schmitt Trigger: No; DatasheetVersion: SCCS022A; PackageReference: J0020A; Operating Temperature Range(C): -55 to 125; ComponentLink1Description: Manufacturer URL; ComponentLink1URL: http://www.ti.com/; ComponentLink2Description: Datasheet; ComponentLink2URL: http://www.ti.com/lit/ds/symlink/cy54fct374t.pdf; ComponentLink3Description: Package Specification; ComponentLink3URL: http://www.ti.com/lit/ml/mcer002d/mcer002d.pdf
footprint J0020A (DIP, 20-Leads, Body 26.9x7.2mm, Pitch 2.54mm)
part A pins: 1 OE (in), 2 O0 (hiz), 3 D0 (in), 4 D1 (in), 5 O1 (hiz), 6 O2 (hiz), 7 D2 (in), 8 D3 (in), 9 O3 (hiz), 11 CP (in), 12 O4 (hiz), 13 D4 (in), 14 D5 (in), 15 O5 (hiz), 16 O6 (hiz), 17 D6 (in), 18 D7 (in), 19 O7 (hiz)
part B pins: 10 GND (power), 20 VCC (power)

## CY54FCT374ATLMB
designator U?
Octal D-Type Registers with 3-State Outputs, FK0020A, TUBE; Generic Part Number: CY54FCT374T; Manufacturer: Texas Instruments; PartNumber: CY54FCT374ATLMB; VCC(Min)(V): 4.75; VCC(Max)(V): 5.25; Output Type: CMOS; ICC @ Nom Voltage(Max)(mA): 0.2; Input Type: TTL; Bits(#): 8; F @ Nom Voltage(Max)(Mhz): 70; Rating: Military; Technology Family: FCT; Schmitt Trigger: No; Output Drive (IOL/IOH)(Max)(mA): 64/-32; Output Logic: Non-inverted; 3-State Output: Yes; tpd @ Nom Voltage(Max)(ns): 11; DatasheetVersion: SCCS022A; PackageReference: FK0020A; Operating Temperature Range(C): -55 to 125; Code_JEDEC: MS-004; ComponentLink1Description: Manufacturer URL; ComponentLink1URL: http://www.ti.com/; ComponentLink2Description: Datasheet; ComponentLink2URL: http://www.ti.com/lit/ds/symlink/cy54fct374t.pdf; ComponentLink3Description: Package Specification; ComponentLink3URL: http://www.ti.com/lit/ml/mlcc006d/mlcc006d.pdf
footprint FK0020A_N (LCC, 20-Leads, Body 8.9x8.9mm, Pitch 1.27mm, IPC Medium Density)
footprint FK0020A_M (LCC, 20-Leads, Body 8.9x8.9mm, Pitch 1.27mm, IPC Low Density)
footprint FK0020A_L (LCC, 20-Leads, Body 8.9x8.9mm, Pitch 1.27mm, IPC High Density)
part A pins: 1 OE (in), 2 O0 (hiz), 3 D0 (in), 4 D1 (in), 5 O1 (hiz), 6 O2 (hiz), 7 D2 (in), 8 D3 (in), 9 O3 (hiz), 11 CP (in), 12 O4 (hiz), 13 D4 (in), 14 D5 (in), 15 O5 (hiz), 16 O6 (hiz), 17 D6 (in), 18 D7 (in), 19 O7 (hiz)
part B pins: 10 GND (power), 20 VCC (power)

## CY54FCT374CTLMB
designator U?
Octal D-Type Registers with 3-State Outputs, FK0020A, TUBE; Generic Part Number: CY54FCT374T; Manufacturer: Texas Instruments; PartNumber: CY54FCT374CTLMB; Rating: Military; Technology Family: FCT; Schmitt Trigger: No; DatasheetVersion: SCCS022A; PackageReference: FK0020A; Operating Temperature Range(C): -55 to 125; Code_JEDEC: MS-004; ComponentLink1Description: Manufacturer URL; ComponentLink1URL: http://www.ti.com/; ComponentLink2Description: Datasheet; ComponentLink2URL: http://www.ti.com/lit/ds/symlink/cy54fct374t.pdf; ComponentLink3Description: Package Specification; ComponentLink3URL: http://www.ti.com/lit/ml/mlcc006d/mlcc006d.pdf
footprint FK0020A_N (LCC, 20-Leads, Body 8.9x8.9mm, Pitch 1.27mm, IPC Medium Density)
footprint FK0020A_M (LCC, 20-Leads, Body 8.9x8.9mm, Pitch 1.27mm, IPC Low Density)
footprint FK0020A_L (LCC, 20-Leads, Body 8.9x8.9mm, Pitch 1.27mm, IPC High Density)
part A pins: 1 OE (in), 2 O0 (hiz), 3 D0 (in), 4 D1 (in), 5 O1 (hiz), 6 O2 (hiz), 7 D2 (in), 8 D3 (in), 9 O3 (hiz), 11 CP (in), 12 O4 (hiz), 13 D4 (in), 14 D5 (in), 15 O5 (hiz), 16 O6 (hiz), 17 D6 (in), 18 D7 (in), 19 O7 (hiz)
part B pins: 10 GND (power), 20 VCC (power)

## CY54FCT374TDMB
designator U?
Octal D-Type Registers with 3-State Outputs, J0020A, TUBE; Generic Part Number: CY54FCT374T; Manufacturer: Texas Instruments; PartNumber: CY54FCT374TDMB; VCC(Min)(V): 4.75; VCC(Max)(V): 5.25; Output Type: CMOS; ICC @ Nom Voltage(Max)(mA): 0.2; Input Type: TTL; Bits(#): 8; F @ Nom Voltage(Max)(Mhz): 70; Rating: Military; Technology Family: FCT; Schmitt Trigger: No; Output Drive (IOL/IOH)(Max)(mA): 64/-32; Output Logic: Non-inverted; 3-State Output: Yes; tpd @ Nom Voltage(Max)(ns): 11; DatasheetVersion: SCCS022A; PackageReference: J0020A; Operating Temperature Range(C): -55 to 125; ComponentLink1Description: Manufacturer URL; ComponentLink1URL: http://www.ti.com/; ComponentLink2Description: Datasheet; ComponentLink2URL: http://www.ti.com/lit/ds/symlink/cy54fct374t.pdf; ComponentLink3Description: Package Specification; ComponentLink3URL: http://www.ti.com/lit/ml/mcer002d/mcer002d.pdf
footprint J0020A (DIP, 20-Leads, Body 26.9x7.2mm, Pitch 2.54mm)
part A pins: 1 OE (in), 2 O0 (hiz), 3 D0 (in), 4 D1 (in), 5 O1 (hiz), 6 O2 (hiz), 7 D2 (in), 8 D3 (in), 9 O3 (hiz), 11 CP (in), 12 O4 (hiz), 13 D4 (in), 14 D5 (in), 15 O5 (hiz), 16 O6 (hiz), 17 D6 (in), 18 D7 (in), 19 O7 (hiz)
part B pins: 10 GND (power), 20 VCC (power)

## CY54FCT374TLMB
designator U?
Octal D-Type Registers with 3-State Outputs, FK0020A, TUBE; Generic Part Number: CY54FCT374T; Manufacturer: Texas Instruments; PartNumber: CY54FCT374TLMB; VCC(Min)(V): 4.75; VCC(Max)(V): 5.25; Output Type: CMOS; ICC @ Nom Voltage(Max)(mA): 0.2; Input Type: TTL; Bits(#): 8; F @ Nom Voltage(Max)(Mhz): 70; Rating: Military; Technology Family: FCT; Schmitt Trigger: No; Output Drive (IOL/IOH)(Max)(mA): 64/-32; Output Logic: Non-inverted; 3-State Output: Yes; tpd @ Nom Voltage(Max)(ns): 11; DatasheetVersion: SCCS022A; PackageReference: FK0020A; Operating Temperature Range(C): -55 to 125; Code_JEDEC: MS-004; ComponentLink1Description: Manufacturer URL; ComponentLink1URL: http://www.ti.com/; ComponentLink2Description: Datasheet; ComponentLink2URL: http://www.ti.com/lit/ds/symlink/cy54fct374t.pdf; ComponentLink3Description: Package Specification; ComponentLink3URL: http://www.ti.com/lit/ml/mlcc006d/mlcc006d.pdf
footprint FK0020A_N (LCC, 20-Leads, Body 8.9x8.9mm, Pitch 1.27mm, IPC Medium Density)
footprint FK0020A_M (LCC, 20-Leads, Body 8.9x8.9mm, Pitch 1.27mm, IPC Low Density)
footprint FK0020A_L (LCC, 20-Leads, Body 8.9x8.9mm, Pitch 1.27mm, IPC High Density)
part A pins: 1 OE (in), 2 O0 (hiz), 3 D0 (in), 4 D1 (in), 5 O1 (hiz), 6 O2 (hiz), 7 D2 (in), 8 D3 (in), 9 O3 (hiz), 11 CP (in), 12 O4 (hiz), 13 D4 (in), 14 D5 (in), 15 O5 (hiz), 16 O6 (hiz), 17 D6 (in), 18 D7 (in), 19 O7 (hiz)
part B pins: 10 GND (power), 20 VCC (power)

## CY54FCT377CTLMB
designator U?
Octal D-Type Flip-Flops with Enable, FK0020A, TUBE; Generic Part Number: CY54FCT377T; Manufacturer: Texas Instruments; PartNumber: CY54FCT377CTLMB; Rating: Military; Technology Family: FCT; Schmitt Trigger: No; DatasheetVersion: SCCS023A; PackageReference: FK0020A; Operating Temperature Range(C): -55 to 125; Code_JEDEC: MS-004; ComponentLink1Description: Manufacturer URL; ComponentLink1URL: http://www.ti.com/; ComponentLink2Description: Datasheet; ComponentLink2URL: http://www.ti.com/lit/ds/symlink/cy54fct377t.pdf; ComponentLink3Description: Package Specification; ComponentLink3URL: http://www.ti.com/lit/ml/mlcc006d/mlcc006d.pdf
footprint FK0020A_N (LCC, 20-Leads, Body 8.9x8.9mm, Pitch 1.27mm, IPC Medium Density)
footprint FK0020A_M (LCC, 20-Leads, Body 8.9x8.9mm, Pitch 1.27mm, IPC Low Density)
footprint FK0020A_L (LCC, 20-Leads, Body 8.9x8.9mm, Pitch 1.27mm, IPC High Density)
part A pins: 1 CE (in), 2 O0 (out), 3 D0 (in), 4 D1 (in), 5 O1 (out), 6 O2 (out), 7 D2 (in), 8 D3 (in), 9 O3 (out), 11 CP (in), 12 O4 (out), 13 D4 (in), 14 D5 (in), 15 O5 (out), 16 O6 (out), 17 D6 (in), 18 D7 (in), 19 O7 (out)
part B pins: 10 GND (power), 20 VCC (power)

## CY54FCT573ATLMB
designator U?
Octal Transparent D-Type Latches with 3-State Outputs, FK0020A, TUBE; Generic Part Number: CY54FCT573T; Manufacturer: Texas Instruments; PartNumber: CY54FCT573ATLMB; Rating: Military; Technology Family: FCT; Schmitt Trigger: No; DatasheetVersion: SCCS068; PackageReference: FK0020A; Operating Temperature Range(C): -55 to 125; Code_JEDEC: MS-004; ComponentLink1Description: Manufacturer URL; ComponentLink1URL: http://www.ti.com/; ComponentLink2Description: Datasheet; ComponentLink2URL: http://www.ti.com/lit/ds/symlink/cy54fct573t.pdf; ComponentLink3Description: Package Specification; ComponentLink3URL: http://www.ti.com/lit/ml/mlcc006d/mlcc006d.pdf
footprint FK0020A_N (LCC, 20-Leads, Body 8.9x8.9mm, Pitch 1.27mm, IPC Medium Density)
footprint FK0020A_M (LCC, 20-Leads, Body 8.9x8.9mm, Pitch 1.27mm, IPC Low Density)
footprint FK0020A_L (LCC, 20-Leads, Body 8.9x8.9mm, Pitch 1.27mm, IPC High Density)
pins: 1 ~{OE} (in), 2 D0 (in), 3 D1 (in), 4 D2 (in), 5 D3 (in), 6 D4 (in), 7 D5 (in), 8 D6 (in), 9 D7 (in), 10 GND (power), 11 LE (in), 12 O7 (hiz), 13 O6 (hiz), 14 O5 (hiz), 15 O4 (hiz), 16 O3 (hiz), 17 O2 (hiz), 18 O1 (hiz), 19 O0 (hiz), 20 VCC (power)

## CY54FCT574ATLMB
designator U?
Octal Edge-Triggered D-Type Flip-Flops with 3-State Outputs, FK0020A, TUBE; Generic Part Number: CY54FCT574T; Manufacturer: Texas Instruments; PartNumber: CY54FCT574ATLMB; Rating: Military; Technology Family: FCT; Schmitt Trigger: No; DatasheetVersion: SCCS073; PackageReference: FK0020A; Operating Temperature Range(C): -55 to 125; Code_JEDEC: MS-004; ComponentLink1Description: Manufacturer URL; ComponentLink1URL: http://www.ti.com/; ComponentLink2Description: Datasheet; ComponentLink2URL: http://www.ti.com/lit/ds/symlink/cy54fct574t.pdf; ComponentLink3Description: Package Specification; ComponentLink3URL: http://www.ti.com/lit/ml/mlcc006d/mlcc006d.pdf
footprint FK0020A_N (LCC, 20-Leads, Body 8.9x8.9mm, Pitch 1.27mm, IPC Medium Density)
footprint FK0020A_M (LCC, 20-Leads, Body 8.9x8.9mm, Pitch 1.27mm, IPC Low Density)
footprint FK0020A_L (LCC, 20-Leads, Body 8.9x8.9mm, Pitch 1.27mm, IPC High Density)
part A pins: 1 OE (in), 2 D0 (in), 3 D1 (in), 4 D2 (in), 5 D3 (in), 6 D4 (in), 7 D5 (in), 8 D6 (in), 9 D7 (in), 11 CP (in), 12 O7 (hiz), 13 O6 (hiz), 14 O5 (hiz), 15 O4 (hiz), 16 O3 (hiz), 17 O2 (hiz), 18 O1 (hiz), 19 O0 (hiz)
part B pins: 10 GND (power), 20 VCC (power)

## CY54FCT841ATDMB
designator U?
10-Bit Bus-Interface D-Type Latches with 3-State Outputs, JT0024A, TUBE; Generic Part Number: CY54FCT841T; Manufacturer: Texas Instruments; PartNumber: CY54FCT841ATDMB; Rating: Military; Technology Family: FCT; Schmitt Trigger: No; DatasheetVersion: SCCS035A; PackageReference: JT0024A; Operating Temperature Range(C): -55 to 125; Code_JEDEC: MO-058 AA; ComponentLink1Description: Manufacturer URL; ComponentLink1URL: http://www.ti.com/; ComponentLink2Description: Datasheet; ComponentLink2URL: http://www.ti.com/lit/ds/symlink/cy54fct841t.pdf; ComponentLink3Description: Package Specification; ComponentLink3URL: http://www.ti.com/lit/ml/mcer004a/mcer004a.pdf
footprint JT0024A (DIP, 24-Leads, Body 7.2x32.5mm, Pitch 2.54mm)
pins: 1 ~{OE} (in), 2 D0 (in), 3 D1 (in), 4 D2 (in), 5 D3 (in), 6 D4 (in), 7 D5 (in), 8 D6 (in), 9 D7 (in), 10 D8 (in), 11 D9 (in), 12 GND (power), 13 LE (in), 14 Y9 (hiz), 15 Y8 (hiz), 16 Y7 (hiz), 17 Y6 (hiz), 18 Y5 (hiz), 19 Y4 (hiz), 20 Y3 (hiz), 21 Y2 (hiz), 22 Y1 (hiz), 23 Y0 (hiz), 24 VCC (power)

## CY74FCT273ATQCT
designator U?
Octal D-Type Flip-Flops with Clear, DBQ0020A, LARGE T&R; Generic Part Number: CY74FCT273T; Manufacturer: Texas Instruments; PartNumber: CY74FCT273ATQCT; VCC(Min)(V): 4.75; VCC(Max)(V): 5.25; Output Type: CMOS; ICC @ Nom Voltage(Max)(mA): 0.2; Input Type: TTL; Bits(#): 8; F @ Nom Voltage(Max)(Mhz): 70; Rating: Catalog; Technology Family: FCT; Voltage(Nom)(V): 5; Schmitt Trigger: No; Output Drive (IOL/IOH)(Max)(mA): 64/-32; tpd @ Nom Voltage(Max)(ns): 7.2; DatasheetVersion: SCCS020A; PackageReference: DBQ0020A; Supplier 1: Digi-Key; Supplier Part Number 1: 296-31638-2-ND; Supplier 2: Digi-Key; Supplier Part Number 2: 296-31638-1-ND; Supplier 3: Digi-Key; Supplier Part Number 3: 296-31638-6-ND; Supplier 4: Newark; Supplier Part Number 4: 74C8978; Supplier 5: Mouser; Supplier Part Number 5: 595-CY74FCT273ATQCT; Operating Temperature Range(C): -40 to 85; Code_JEDEC: MO-137; ComponentLink1Description: Manufacturer URL; ComponentLink1URL: http://www.ti.com/; ComponentLink2Description: Datasheet; ComponentLink2URL: http://www.ti.com/lit/ds/symlink/cy74fct273t.pdf; ComponentLink3Description: Package Specification; ComponentLink3URL: http://www.ti.com/lit/ml/mpds210a/mpds210a.pdf
footprint DBQ0020A_N (SOP, 20-Leads, Body 8.8x4mm, Pitch 0.635mm, IPC Medium Density)
footprint DBQ0020A_M (SOP, 20-Leads, Body 8.8x4mm, Pitch 0.635mm, IPC Low Density)
footprint DBQ0020A_L (SOP, 20-Leads, Body 8.8x4mm, Pitch 0.635mm, IPC High Density)
part A pins: 1 MR (in), 2 Q0 (out), 3 D0 (in), 4 D1 (in), 5 Q1 (out), 6 Q2 (out), 7 D2 (in), 8 D3 (in), 9 Q3 (out), 11 CP (in), 12 Q4 (out), 13 D4 (in), 14 D5 (in), 15 Q5 (out), 16 Q6 (out), 17 D6 (in), 18 D7 (in), 19 Q7 (out)
part B pins: 10 GND (power), 20 VCC (power)

## CY74FCT273ATSOC
designator U?
Octal D-Type Flip-Flops with Clear, DW0020A, TUBE; Generic Part Number: CY74FCT273T; Manufacturer: Texas Instruments; PartNumber: CY74FCT273ATSOC; VCC(Min)(V): 4.75; VCC(Max)(V): 5.25; Output Type: CMOS; ICC @ Nom Voltage(Max)(mA): 0.2; Input Type: TTL; Bits(#): 8; F @ Nom Voltage(Max)(Mhz): 70; Rating: Catalog; Technology Family: FCT; Voltage(Nom)(V): 5; Schmitt Trigger: No; Output Drive (IOL/IOH)(Max)(mA): 64/-32; tpd @ Nom Voltage(Max)(ns): 7.2; DatasheetVersion: SCCS020A; PackageReference: DW0020A; Supplier 1: Digi-Key; Supplier Part Number 1: CY74FCT273ATSOC-ND; Supplier 2: Mouser; Supplier Part Number 2: 595-CY74FCT273ATSOC; Operating Temperature Range(C): -40 to 85; Code_JEDEC: MS-013; ComponentLink1Description: Manufacturer URL; ComponentLink1URL: http://www.ti.com/; ComponentLink2Description: Datasheet; ComponentLink2URL: http://www.ti.com/lit/ds/symlink/cy74fct273t.pdf; ComponentLink3Description: Package Specification; ComponentLink3URL: http://www.ti.com/lit/ml/mpds173a/mpds173a.pdf
footprint DW0020A_N (SOIC, 20-Leads, Body 13x7.6mm, Pitch 1.27mm, IPC Medium Density)
footprint DW0020A_M (SOIC, 20-Leads, Body 13x7.6mm, Pitch 1.27mm, IPC Low Density)
footprint DW0020A_L (SOIC, 20-Leads, Body 13x7.6mm, Pitch 1.27mm, IPC High Density)
part A pins: 1 MR (in), 2 Q0 (out), 3 D0 (in), 4 D1 (in), 5 Q1 (out), 6 Q2 (out), 7 D2 (in), 8 D3 (in), 9 Q3 (out), 11 CP (in), 12 Q4 (out), 13 D4 (in), 14 D5 (in), 15 Q5 (out), 16 Q6 (out), 17 D6 (in), 18 D7 (in), 19 Q7 (out)
part B pins: 10 GND (power), 20 VCC (power)

## CY74FCT273ATSOCT
designator U?
Octal D-Type Flip-Flops with Clear, DW0020A, LARGE T&R; Generic Part Number: CY74FCT273T; Manufacturer: Texas Instruments; PartNumber: CY74FCT273ATSOCT; VCC(Min)(V): 4.75; VCC(Max)(V): 5.25; Output Type: CMOS; ICC @ Nom Voltage(Max)(mA): 0.2; Input Type: TTL; Bits(#): 8; F @ Nom Voltage(Max)(Mhz): 70; Rating: Catalog; Technology Family: FCT; Voltage(Nom)(V): 5; Schmitt Trigger: No; Output Drive (IOL/IOH)(Max)(mA): 64/-32; tpd @ Nom Voltage(Max)(ns): 7.2; DatasheetVersion: SCCS020A; PackageReference: DW0020A; Supplier 1: Digi-Key; Supplier Part Number 1: 296-28861-2-ND; Supplier 2: Digi-Key; Supplier Part Number 2: 296-28861-1-ND; Supplier 3: Digi-Key; Supplier Part Number 3: 296-28861-6-ND; Supplier 4: Newark; Supplier Part Number 4: 74C8980; Supplier 5: Mouser; Supplier Part Number 5: 595-CY74FCT273ATSOCT; Operating Temperature Range(C): -40 to 85; Code_JEDEC: MS-013; ComponentLink1Description: Manufacturer URL; ComponentLink1URL: http://www.ti.com/; ComponentLink2Description: Datasheet; ComponentLink2URL: http://www.ti.com/lit/ds/symlink/cy74fct273t.pdf; ComponentLink3Description: Package Specification; ComponentLink3URL: http://www.ti.com/lit/ml/mpds173a/mpds173a.pdf
footprint DW0020A_N (SOIC, 20-Leads, Body 13x7.6mm, Pitch 1.27mm, IPC Medium Density)
footprint DW0020A_M (SOIC, 20-Leads, Body 13x7.6mm, Pitch 1.27mm, IPC Low Density)
footprint DW0020A_L (SOIC, 20-Leads, Body 13x7.6mm, Pitch 1.27mm, IPC High Density)
part A pins: 1 MR (in), 2 Q0 (out), 3 D0 (in), 4 D1 (in), 5 Q1 (out), 6 Q2 (out), 7 D2 (in), 8 D3 (in), 9 Q3 (out), 11 CP (in), 12 Q4 (out), 13 D4 (in), 14 D5 (in), 15 Q5 (out), 16 Q6 (out), 17 D6 (in), 18 D7 (in), 19 Q7 (out)
part B pins: 10 GND (power), 20 VCC (power)

## CY74FCT273CTQCT
designator U?
Octal D-Type Flip-Flops with Clear, DBQ0020A, LARGE T&R; Generic Part Number: CY74FCT273T; Manufacturer: Texas Instruments; PartNumber: CY74FCT273CTQCT; VCC(Min)(V): 4.75; VCC(Max)(V): 5.25; Output Type: CMOS; ICC @ Nom Voltage(Max)(mA): 0.2; Input Type: TTL; Bits(#): 8; F @ Nom Voltage(Max)(Mhz): 70; Rating: Catalog; Technology Family: FCT; Voltage(Nom)(V): 5; Schmitt Trigger: No; Output Drive (IOL/IOH)(Max)(mA): 64/-32; tpd @ Nom Voltage(Max)(ns): 5.8; DatasheetVersion: SCCS020A; PackageReference: DBQ0020A; Supplier 1: Digi-Key; Supplier Part Number 1: 296-28478-2-ND; Supplier 2: Digi-Key; Supplier Part Number 2: 296-28478-1-ND; Supplier 3: Digi-Key; Supplier Part Number 3: 296-28478-6-ND; Supplier 4: Mouser; Supplier Part Number 4: 595-CY74FCT273CTQCT; Operating Temperature Range(C): -40 to 85; Code_JEDEC: MO-137; ComponentLink1Description: Manufacturer URL; ComponentLink1URL: http://www.ti.com/; ComponentLink2Description: Datasheet; ComponentLink2URL: http://www.ti.com/lit/ds/symlink/cy74fct273t.pdf; ComponentLink3Description: Package Specification; ComponentLink3URL: http://www.ti.com/lit/ml/mpds210a/mpds210a.pdf
footprint DBQ0020A_N (SOP, 20-Leads, Body 8.8x4mm, Pitch 0.635mm, IPC Medium Density)
footprint DBQ0020A_M (SOP, 20-Leads, Body 8.8x4mm, Pitch 0.635mm, IPC Low Density)
footprint DBQ0020A_L (SOP, 20-Leads, Body 8.8x4mm, Pitch 0.635mm, IPC High Density)
part A pins: 1 MR (in), 2 Q0 (out), 3 D0 (in), 4 D1 (in), 5 Q1 (out), 6 Q2 (out), 7 D2 (in), 8 D3 (in), 9 Q3 (out), 11 CP (in), 12 Q4 (out), 13 D4 (in), 14 D5 (in), 15 Q5 (out), 16 Q6 (out), 17 D6 (in), 18 D7 (in), 19 Q7 (out)
part B pins: 10 GND (power), 20 VCC (power)

## CY74FCT273CTSOC
designator U?
Octal D-Type Flip-Flops with Clear, DW0020A, TUBE; Generic Part Number: CY74FCT273T; Manufacturer: Texas Instruments; PartNumber: CY74FCT273CTSOC; VCC(Min)(V): 4.75; VCC(Max)(V): 5.25; Output Type: CMOS; ICC @ Nom Voltage(Max)(mA): 0.2; Input Type: TTL; Bits(#): 8; F @ Nom Voltage(Max)(Mhz): 70; Rating: Catalog; Technology Family: FCT; Voltage(Nom)(V): 5; Schmitt Trigger: No; Output Drive (IOL/IOH)(Max)(mA): 64/-32; tpd @ Nom Voltage(Max)(ns): 5.8; DatasheetVersion: SCCS020A; PackageReference: DW0020A; Supplier 1: Digi-Key; Supplier Part Number 1: 296-33229-5-ND; Supplier 2: Farnell; Supplier Part Number 2: 1741088; Supplier 3: Mouser; Supplier Part Number 3: 595-CY74FCT273CTSOC; Operating Temperature Range(C): -40 to 85; Code_JEDEC: MS-013; ComponentLink1Description: Manufacturer URL; ComponentLink1URL: http://www.ti.com/; ComponentLink2Description: Datasheet; ComponentLink2URL: http://www.ti.com/lit/ds/symlink/cy74fct273t.pdf; ComponentLink3Description: Package Specification; ComponentLink3URL: http://www.ti.com/lit/ml/mpds173a/mpds173a.pdf
footprint DW0020A_N (SOIC, 20-Leads, Body 13x7.6mm, Pitch 1.27mm, IPC Medium Density)
footprint DW0020A_M (SOIC, 20-Leads, Body 13x7.6mm, Pitch 1.27mm, IPC Low Density)
footprint DW0020A_L (SOIC, 20-Leads, Body 13x7.6mm, Pitch 1.27mm, IPC High Density)
part A pins: 1 MR (in), 2 Q0 (out), 3 D0 (in), 4 D1 (in), 5 Q1 (out), 6 Q2 (out), 7 D2 (in), 8 D3 (in), 9 Q3 (out), 11 CP (in), 12 Q4 (out), 13 D4 (in), 14 D5 (in), 15 Q5 (out), 16 Q6 (out), 17 D6 (in), 18 D7 (in), 19 Q7 (out)
part B pins: 10 GND (power), 20 VCC (power)

## CY74FCT273TQCT
designator U?
Octal D-Type Flip-Flops with Clear, DBQ0020A, LARGE T&R; Generic Part Number: CY74FCT273T; Manufacturer: Texas Instruments; PartNumber: CY74FCT273TQCT; VCC(Min)(V): 4.75; VCC(Max)(V): 5.25; Output Type: CMOS; ICC @ Nom Voltage(Max)(mA): 0.2; Input Type: TTL; Bits(#): 8; F @ Nom Voltage(Max)(Mhz): 70; Rating: Catalog; Technology Family: FCT; Voltage(Nom)(V): 5; Schmitt Trigger: No; Output Drive (IOL/IOH)(Max)(mA): 64/-32; Output Logic: Non-inverted; tpd @ Nom Voltage(Max)(ns): 13; DatasheetVersion: SCCS020A; PackageReference: DBQ0020A; Supplier 1: Digi-Key; Supplier Part Number 1: 296-31639-2-ND; Supplier 2: Digi-Key; Supplier Part Number 2: 296-31639-1-ND; Supplier 3: Digi-Key; Supplier Part Number 3: 296-31639-6-ND; Supplier 4: Mouser; Supplier Part Number 4: 595-CY74FCT273TQCT; Operating Temperature Range(C): -40 to 85; 3-State Output: No; Code_JEDEC: MO-137; ComponentLink1Description: Manufacturer URL; ComponentLink1URL: http://www.ti.com/; ComponentLink2Description: Datasheet; ComponentLink2URL: http://www.ti.com/lit/ds/symlink/cy74fct273t.pdf; ComponentLink3Description: Package Specification; ComponentLink3URL: http://www.ti.com/lit/ml/mpds210a/mpds210a.pdf
footprint DBQ0020A_N (SOP, 20-Leads, Body 8.8x4mm, Pitch 0.635mm, IPC Medium Density)
footprint DBQ0020A_M (SOP, 20-Leads, Body 8.8x4mm, Pitch 0.635mm, IPC Low Density)
footprint DBQ0020A_L (SOP, 20-Leads, Body 8.8x4mm, Pitch 0.635mm, IPC High Density)
part A pins: 1 MR (in), 2 Q0 (out), 3 D0 (in), 4 D1 (in), 5 Q1 (out), 6 Q2 (out), 7 D2 (in), 8 D3 (in), 9 Q3 (out), 11 CP (in), 12 Q4 (out), 13 D4 (in), 14 D5 (in), 15 Q5 (out), 16 Q6 (out), 17 D6 (in), 18 D7 (in), 19 Q7 (out)
part B pins: 10 GND (power), 20 VCC (power)

## CY74FCT273TSOC
designator U?
Octal D-Type Flip-Flops with Clear, DW0020A, TUBE; Generic Part Number: CY74FCT273T; Manufacturer: Texas Instruments; PartNumber: CY74FCT273TSOC; VCC(Min)(V): 4.75; VCC(Max)(V): 5.25; Output Type: CMOS; ICC @ Nom Voltage(Max)(mA): 0.2; Input Type: TTL; Bits(#): 8; F @ Nom Voltage(Max)(Mhz): 70; Rating: Catalog; Technology Family: FCT; Voltage(Nom)(V): 5; Schmitt Trigger: No; Output Drive (IOL/IOH)(Max)(mA): 64/-32; Output Logic: Non-inverted; tpd @ Nom Voltage(Max)(ns): 13; DatasheetVersion: SCCS020A; PackageReference: DW0020A; Supplier 1: Digi-Key; Supplier Part Number 1: 296-33230-5-ND; Supplier 2: Farnell; Supplier Part Number 2: 1741087; Supplier 3: Mouser; Supplier Part Number 3: 595-CY74FCT273TSOC; Operating Temperature Range(C): -40 to 85; 3-State Output: No; Code_JEDEC: MS-013; ComponentLink1Description: Manufacturer URL; ComponentLink1URL: http://www.ti.com/; ComponentLink2Description: Datasheet; ComponentLink2URL: http://www.ti.com/lit/ds/symlink/cy74fct273t.pdf; ComponentLink3Description: Package Specification; ComponentLink3URL: http://www.ti.com/lit/ml/mpds173a/mpds173a.pdf
footprint DW0020A_N (SOIC, 20-Leads, Body 13x7.6mm, Pitch 1.27mm, IPC Medium Density)
footprint DW0020A_M (SOIC, 20-Leads, Body 13x7.6mm, Pitch 1.27mm, IPC Low Density)
footprint DW0020A_L (SOIC, 20-Leads, Body 13x7.6mm, Pitch 1.27mm, IPC High Density)
part A pins: 1 MR (in), 2 Q0 (out), 3 D0 (in), 4 D1 (in), 5 Q1 (out), 6 Q2 (out), 7 D2 (in), 8 D3 (in), 9 Q3 (out), 11 CP (in), 12 Q4 (out), 13 D4 (in), 14 D5 (in), 15 Q5 (out), 16 Q6 (out), 17 D6 (in), 18 D7 (in), 19 Q7 (out)
part B pins: 10 GND (power), 20 VCC (power)